# EAGLE library part PMBT3904VS_DUAL_NPN (library tvbgone-2layer)
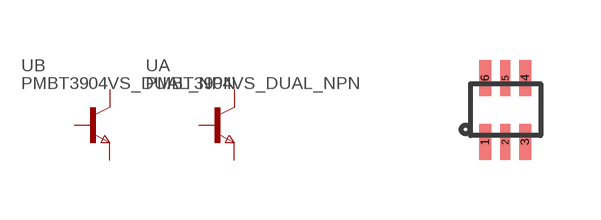
[diagram p3: symbol with the pads of SOT666; footprint SOT666]

Designator prefix -; gates A=FAIRCHILD-SEMIC_NPN B=FAIRCHILD-SEMIC_NPN

## PMBT3904VS_DUAL_NPN  [SOT666]
1  A:E  pas
2  A:B  pas
3  A:C  pas
4  B:E  pas
5  B:B  pas
6  B:C  pas

## Footprint SOT666 (pad centres in mm)
smd 0.3 x 0.9: 1 -0.508,-0.813; 3 0.492,-0.813; 4 0.492,0.797; 6 -0.508,0.797
smd 0.25 x 0.9: 2 -0.008,-0.813; 5 -0.008,0.797